# EAGLE library part CD74HC4052E (library eagle-lib)
Dual 4:1 MUX/DEMUX digitally controlled analog switches built on silicon gate CMOS technology.
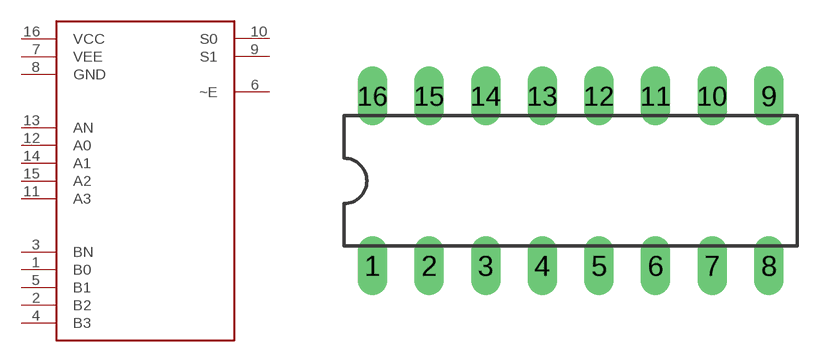
[diagram p2: symbol with the pads of DIL16; footprint DIL16]

Designator prefix -

## CD74HC4052E  [DIL16]
1  B0
2  B2
3  BN
4  B3
5  B1
6  ~E  in
7  VEE  pwr
8  GND  pas
9  S1  in
10  S0  in
11  A3
12  A0
13  AN
14  A1
15  A2
16  VCC  pwr

## Footprint DIL16 (pad centres in mm)
Dual In Line Package
drill 0.813 long: 1 -8.89,-3.81; 2 -6.35,-3.81; 3 -3.81,-3.81; 4 -1.27,-3.81; 5 1.27,-3.81; 6 3.81,-3.81; 7 6.35,-3.81; 8 8.89,-3.81; 9 8.89,3.81; 10 6.35,3.81; 11 3.81,3.81; 12 1.27,3.81; 13 -1.27,3.81; 14 -3.81,3.81; 15 -6.35,3.81; 16 -8.89,3.81